# Altium schematic symbol library PH.SchLib: 19 symbols
Pins are listed as number, name and electrical type; pins without a type are passive.

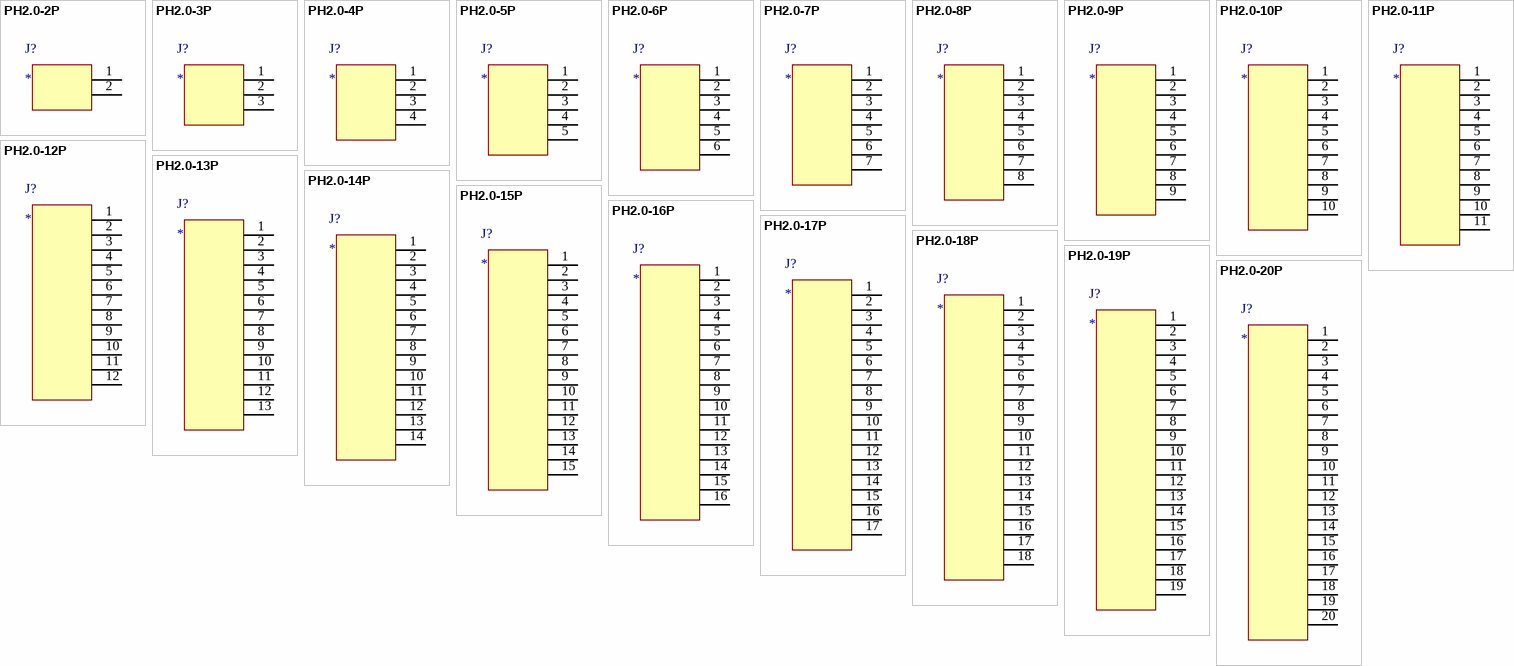
[diagram p0: symbols PH2.0-2P to PH2.0-20P]

## PH2.0-2P
designator J?
footprint PH2.0-2P
footprint PH2.0S-2P
footprint PH2.0W-2P
footprint PH2.0WS-2P
pins: 1, 2

## PH2.0-3P
designator J?
footprint PH2.0-3P
footprint PH2.0S-3P
footprint PH2.0W-3P
footprint PH2.0WS-3P
pins: 1, 2, 3

## PH2.0-4P
designator J?
footprint PH2.0-4P
footprint PH2.0S-4P
footprint PH2.0W-4P
footprint PH2.0WS-4P
pins: 1, 2, 3, 4

## PH2.0-5P
designator J?
footprint PH2.0-5P
footprint PH2.0S-5P
footprint PH2.0W-5P
footprint PH2.0WS-5P
pins: 1, 2, 3, 4, 5

## PH2.0-6P
designator J?
footprint PH2.0-6P
footprint PH2.0S-6P
footprint PH2.0W-6P
footprint PH2.0WS-6P
pins: 1, 2, 3, 4, 5, 6

## PH2.0-7P
designator J?
footprint PH2.0-7P
footprint PH2.0S-7P
footprint PH2.0W-7P
footprint PH2.0WS-7P
pins: 1, 2, 3, 4, 5, 6, 7

## PH2.0-8P
designator J?
footprint PH2.0-8P
footprint PH2.0S-8P
footprint PH2.0W-8P
footprint PH2.0WS-8P
pins: 1, 2, 3, 4, 5, 6, 7, 8

## PH2.0-9P
designator J?
footprint PH2.0-9P
footprint PH2.0S-9P
footprint PH2.0WS-9P
pins: 1, 2, 3, 4, 5, 6, 7, 8, 9

## PH2.0-10P
designator J?
footprint PH2.0-10P
footprint PH2.0S-10P
footprint PH2.0W-10P
footprint PH2.0WS-10P
pins: 1, 2, 3, 4, 5, 6, 7, 8, 9, 10

## PH2.0-11P
designator J?
footprint PH2.0-11P
footprint PH2.0S-11P
footprint PH2.0W-11P
footprint PH2.0WS-11P
pins: 1, 2, 3, 4, 5, 6, 7, 8, 9, 10, 11

## PH2.0-12P
designator J?
footprint PH2.0-12P
footprint PH2.0W-12P
footprint PH2.0S-12P
footprint PH2.0WS-12P
pins: 1, 2, 3, 4, 5, 6, 7, 8, 9, 10, 11, 12

## PH2.0-13P
designator J?
footprint PH2.0-13P
footprint PH2.0W-13P
footprint PH2.0S-13P
footprint PH2.0WS-14P
pins: 1, 2, 3, 4, 5, 6, 7, 8, 9, 10, 11, 12, 13

## PH2.0-14P
designator J?
footprint PH2.0-14p
footprint PH2.0S-14P
footprint PH2.0WS-14P
footprint PH2.0W-14P
pins: 1, 2, 3, 4, 5, 6, 7, 8, 9, 10, 11, 12, 13, 14

## PH2.0-15P
designator J?
footprint PH2.0-15P
footprint PH2.0S-15P
footprint PH2.0W-15P
footprint PH2.0WS-15P
pins: 1, 2, 3, 4, 5, 6, 7, 8, 9, 10, 11, 12, 13, 14, 15

## PH2.0-16P
designator J?
footprint PH2.0-16P
footprint PH2.0S-16P
footprint PH2.0W-16P
footprint PH2.0WS-16P
pins: 1, 2, 3, 4, 5, 6, 7, 8, 9, 10, 11, 12, 13, 14, 15, 16

## PH2.0-17P
designator J?
footprint PH2.0WS-17P
footprint PH2.0WS-17P
pins: 1, 2, 3, 4, 5, 6, 7, 8, 9, 10, 11, 12, 13, 14, 15, 16, 17

## PH2.0-18P
designator J?
footprint PH2.0WS-18P
pins: 1, 2, 3, 4, 5, 6, 7, 8, 9, 10, 11, 12, 13, 14, 15, 16, 17, 18

## PH2.0-19P
designator J?
footprint PH2.0WS-19P
pins: 1, 2, 3, 4, 5, 6, 7, 8, 9, 10, 11, 12, 13, 14, 15, 16, 17, 18, 19

## PH2.0-20P
designator J?
footprint PH2.0WS-20P
pins: 1, 2, 3, 4, 5, 6, 7, 8, 9, 10, 11, 12, 13, 14, 15, 16, 17, 18, 19, 20